# Altium schematic symbol library XT9S20ANA16M.SchLib: 1 symbol
Pins are listed as number, name and electrical type; pins without a type are passive.

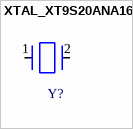
[diagram p0: symbol XTAL_XT9S20ANA16M]

## XTAL_XT9S20ANA16M
designator Y?
Crystal 8MHz ±30ppm (Tol) ±50ppm (Stability) Series FUND 100Ohm 2-Pin Thru-Hole Bulk; Part Number: ABL-16.000MHZ-B2; Manufacturer: Abracon; Frequency Tolerance: ±20ppm; ESR: 40 Ohm; Load Capacitance: 18pF; Operating Mode: Fundamental; Frequency: 16MHz; helpURL: https://upverter.com/upn/revision/7ebf07e1da2eb130/; ComponentLink2Description: Datasheet; Temperature: 0ºC to +70ºC; Package: HC/49US; Supplier 2: Mouser; Price: 0.175999999027; Supplier 1: Digi-Key; ComponentLink1URL: https://upverter.com/upn/revision/7ebf07e1da2eb130/; Supplier Part Number 2: 815-ABL-16-B2; Supplier Part Number 1: 535-9041-ND; ComponentLink1Description: Upverter; ComponentLink2URL: http://www.abracon.com/Resonators/ABL.pdf; RoHS: TRUE; Mouser Part Number: 815-ABL-16-B2; Frequency Stability: ±50ppm; Temperature Range High: +70ºC; Digikey Description: CRYS 16MHz ±20ppm Crystal 18pF 40 Ohm -20°C ~ 70°C Through Hole HC49/US; Digikey Part Number: 535-9041-ND; Lead Free: yes; Temperature Range Low: 0ºC
footprint XTAL_XT9S20ANA16M
pins: 1, 2